# Altium schematic symbol library Schlib1.SchLib: 1 symbol
Pins are listed as number, name and electrical type; pins without a type are passive.

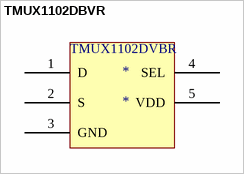
[diagram p0: symbol TMUX1102DBVR]

## TMUX1102DBVR
designator *
pins: 1 D, 2 S, 3 GND, 4 SEL, 5 VDD
text: TMUX1102DVBR